# Altium integrated library Avago LED Display Digit & Word Icon.IntLib: 3 symbols
Pins are listed as number, name and electrical type; pins without a type are passive.

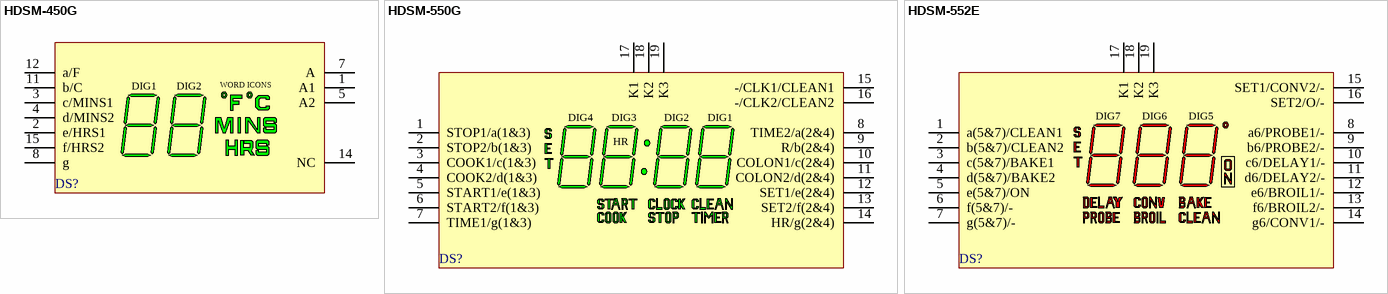
[diagram p0: symbols HDSM-450G to HDSM-552E]

## HDSM-450G
designator DS?
10 mm Gray Surface GAP Green 7-Segment Display: 2-Digit, 4-Word Icons, Custom Display Module; LuminousIntensity: 3200 ucd (Minimum).; Published: 26-May-2004; LatestRevisionDate: 11-Oct-2004; LatestRevisionNote: Display outline superimposed on PCB Footprint.; DatasheetDocument: 12-Jun-2001; PackageDocument: 20-Nov-2001; PackageReference: HDSM-450; Publisher: Altium Limited; LED_Colour: Green; ComponentLink1Description: Manufacturer Link; ComponentLink1URL: http://www.agilent.com/; ComponentLink2Description: Datasheet; ComponentLink2URL: http://cp.literature.agilent.com/litweb/pdf/5980-2566EN.pdf
footprint HDSM-450 (LED, Custom Display Module; 15 Leads (4 Absent); Row Space 10.16 mm; Pitch 2.54 mm)
simulation model HDSM_450G (SUBCKT)
pins: 1 A1 "Digit 1 Common Anode", 2 e/HRS1 "Digits (1&2) e, HRS1 Cathode", 3 c/MINS1 "Digits (1&2) c, MINS1 Cathode", 4 d/MINS2 "Digits (1&2) d, MINS2 Cathode", 5 A2 "Digit 2 Common Anode", 7 A "Word Icons Common Anode", 8 g "Digits (1&2) g Cathode", 11 b/C "Digits (1&2) b, deg C Cathode", 12 a/F "Digits (1&2) a, deg F Cathode", 14 NC "Not Connected", 15 f/HRS2 "Digits (1&2) f, HRS2 Cathode"
text: WORD ICONS; DIG1; DIG2

## HDSM-550G
designator DS?
13 mm Gray Surface Green 7-Segment Display: 4-Digit, 7-Word Icons, Clock Display Module; LuminousIntensity: 1125 ucd (Minimum).; Published: 26-May-2004; LatestRevisionDate: 11-Oct-2004; LatestRevisionNote: Display outline superimposed on PCB Footprint.; DatasheetDocument: 08-May-2001; PackageDocument: 08-May-2001; PackageReference: HDSM-550; Publisher: Altium Limited; LED_Colour: Green; ComponentLink1Description: Manufacturer Link; ComponentLink1URL: http://www.agilent.com/; ComponentLink2Description: Datasheet; ComponentLink2URL: http://cp.literature.agilent.com/litweb/pdf/5988-1573EN.pdf
footprint HDSM-550 (LED, Clock Display Module; 20 Leads (1 Absent); Row Space 28 mm; Pitch 2 mm)
simulation model HDSM_550G (SUBCKT)
pins: 1 STOP1/a(1&3) "STOP1, Digits (1&3) a Anode", 2 STOP2/b(1&3) "STOP2, Digits (1&3) b Anode", 3 COOK1/c(1&3) "COOK1, Digits (1&3) c Anode", 4 COOK2/d(1&3) "COOK2, Digits (1&3) d Anode", 5 START1/e(1&3) "START1, Digits (1&3) e Anode", 6 START2/f(1&3) "START2, Digits (1&3) f Anode", 7 TIME1/g(1&3) "TIME1, Digits (1&3) g Anode", 8 TIME2/a(2&4) "TIME2, Digits (2&4) a Anode", 9 R/b(2&4) "R, Digits (2&4) b Anode", 10 COLON1/c(2&4) "COLON1, Digits (2&4) c Anode", 11 COLON2/d(2&4) "COLON2, Digits (2&4) d Anode", 12 SET1/e(2&4) "SET1, Digits (2&4) e Anode", 13 SET2/f(2&4) "SET2, Digits (2&4) f Anode", 14 HR/g(2&4) "HR, Digits (2&4) g Anode", 15 -/CLK1/CLEAN1 "CLOCK1, CLEAN1 Anode", 16 -/CLK2/CLEAN2 "CLOCK2, CLEAN2 Anode", 17 K1 "Digits 1&2 (a,b,c,d,e,f,g), CLEAN Icon Common Cathode", 18 K2 "Digits 3&4 (a,b,c,d,e,f,g), CLOCK Icon Common Cathode", 19 K3 "STOP, COOK, START, TIME, R, COLON, SET, HR Icons Common Cathode"
text: DIG4; DIG3; DIG2; DIG1; HR

## HDSM-552E
designator DS?
13 mm Gray Surface High Efficiency Red 7-Segment Display: 3-Digit, 8-Word Icons, Temperature Display Module; LuminousIntensity: 1125 ucd (Minimum).; LED_Colour: High Efficiency Red (HER); Published: 26-May-2004; LatestRevisionDate: 11-Oct-2004; LatestRevisionNote: Display outline superimposed on PCB Footprint.; DatasheetDocument: 21-Feb-2001; PackageDocument: 21-Feb-2001; PackageReference: HDSM-552; Publisher: Altium Limited; ComponentLink1Description: Manufacturer Link; ComponentLink1URL: http://www.agilent.com/; ComponentLink2Description: Datasheet; ComponentLink2URL: http://cp.literature.agilent.com/litweb/pdf/5988-1574EN.pdf
footprint HDSM-552 (LED, Temperature Display Module; 20 Leads (1 Absent); Row Space 28 mm; Pitch 2 mm)
simulation model HDSM_552E (SUBCKT)
pins: 1 a(5&7)/CLEAN1 "Digits (5&7) a, CLEAN1 Anode", 2 b(5&7)/CLEAN2 "Digits (5&7) b, CLEAN2 Anode", 3 c(5&7)/BAKE1 "Digits (5&7) c, BAKE1 Anode", 4 d(5&7)/BAKE2 "Digits (5&7) d, BAKE2 Anode", 5 e(5&7)/ON "Digits (5&7) e, ON Anode", 6 f(5&7)/- "Digits (5&7) f  Anode", 7 g(5&7)/- "Digits (5&7) g  Anode", 8 a6/PROBE1/- "Digit 6 a, PROBE1 Anode", 9 b6/PROBE2/- "Digit 6 b, PROBE2 Anode", 10 c6/DELAY1/- "Digit 6 c, DELAY1 Anode", 11 d6/DELAY2/- "Digit 6 d, DELAY2 Anode", 12 e6/BROIL1/- "Digit 6 e, BROIL1 Anode", 13 f6/BROIL2/- "Digit 6 f, BROIL2 Anode", 14 g6/CONV1/- "Digit 6 g, CONV1 Anode", 15 SET1/CONV2/- "SET1, CONV2 Anode", 16 SET2/O/- "SET2, O Anode", 17 K1 "CLEAN, BAKE, ON Icons Common Cathode", 18 K2 "Digit 5 (a,b,c,d,e,f,g), PROBE, DELAY, BROIL, CONV, O Icons Common Cathode", 19 K3 "Digits 6&7 (a,b,c,d,e,f,g), SET Icon Common Cathode"
text: DIG7; DIG6; DIG5